# EAGLE library part DC-DC_CONVERTER_DUAL_SUPPLY (library Felicia_force_logger)
Murata DC-DC converter dual-supply Example: Murata PN: MEV1D1205 Digikey PN: 811-2272-ND
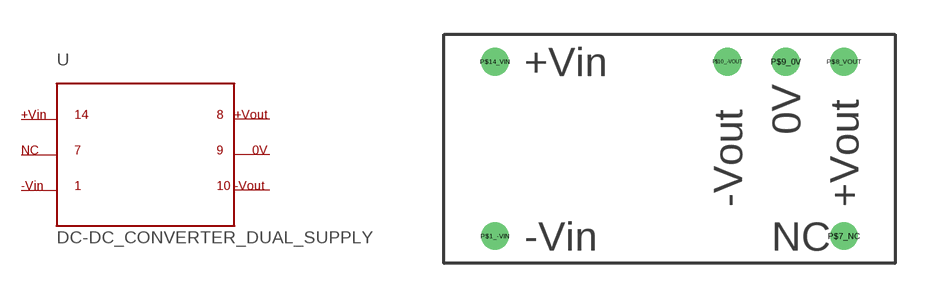
[diagram p10: symbol with the pads of DCDC_CONVERTOR-MEV1D; footprint DCDC_CONVERTOR-MEV1D]

Designator prefix -

## DC-DC_CONVERTER_DUAL_SUPPLY  [DCDC_CONVERTOR-MEV1D]
P$1_-VIN  P$1_-VIN  pwr
P$7_NC  P$7_NC  nc
P$8_VOUT  P$8_VOUT  pwr
P$9_0V  P$9_0V  pwr
P$10_-VOUT  P$10_-VOUT  pwr
P$14_VIN  P$14_VIN  pwr

## Footprint DCDC_CONVERTOR-MEV1D (pad centres in mm)
Murata MEV1D1205 DC/DC dual output converter DIP package Digikey PN: 811-2272-ND
drill 0.7: P$1_-VIN -7.62,-3.81; P$7_NC 7.62,-3.81; P$8_VOUT 7.62,3.81; P$9_0V 5.08,3.81; P$10_-VOUT 2.54,3.81; P$14_VIN -7.62,3.81